# EAGLE library part LM4819 (library FiveVolt)
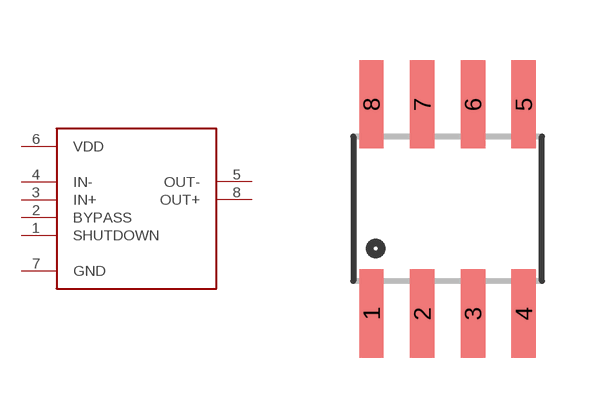
[diagram p9: symbol with the pads of SOIC-8; footprint SOIC-8]

Designator prefix U

## LM4819  [SOIC-8]
1  SHUTDOWN
2  BYPASS
3  IN+
4  IN-
5  OUT-
6  VDD
7  GND
8  OUT+

## Footprint SOIC-8 (pad centres in mm)
smd 0.61 x 2.21: 1 -1.905,-2.616; 2 -0.635,-2.616; 3 0.635,-2.616; 4 1.905,-2.616; 5 1.905,2.616; 6 0.635,2.616; 7 -0.635,2.616; 8 -1.905,2.616